# EAGLE library part 62200821821 (library Wuerth_Elektronik_eiCan_Pin_&_Socked_Headers_v1.3)
WR-PHD 1.27mm Dual Socket Header, 8 Pins
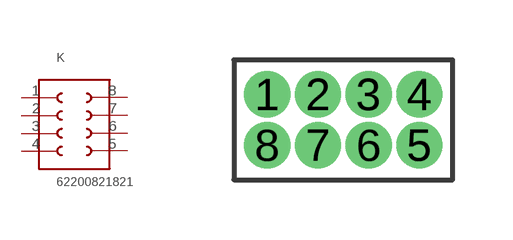
[diagram p338: symbol with the pads of 62200821821; footprint 62200821821]

Designator prefix K

## 62200821821  [62200821821]
1  1  pas
2  2  pas
3  3  pas
4  4  pas
5  5  pas
6  6  pas
7  7  pas
8  8  pas

## Footprint 62200821821 (pad centres in mm)
WR-PHD 1.27mm Dual Socket Header, 8 Pins
drill 0.65 round: 1 -1.905,0.635; 2 -0.635,0.635; 3 0.635,0.635; 4 1.905,0.635; 5 1.905,-0.635; 6 0.635,-0.635; 7 -0.635,-0.635; 8 -1.905,-0.635